# EAGLE library part FEP01 (library FEP01)
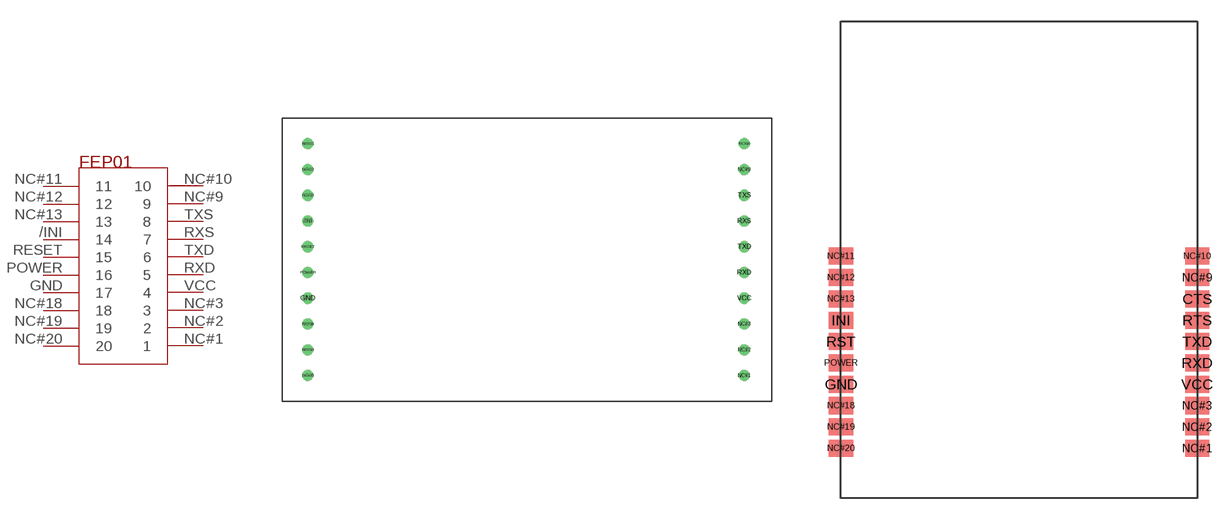
[diagram p0: symbol with the pads of FEP01; footprints FEP01, FEP01_1]

Designator prefix -

## FEP01FEP01  [FEP01]
/INI  14
GND  17
NC#1  1
NC#2  2
NC#3  3
NC#9  9
NC#10  10
NC#11  11
NC#12  12
NC#13  13
NC#18  18
NC#19  19
NC#20  20
POWER  16
RESET  15
RXD  5
RXS  7
TXD  6
TXS  8
VCC  4

## FEP01FEP01_1  [FEP01_1]
CTS  8
GND  17
INI  14
NC#1  1
NC#2  2
NC#3  3
NC#9  9
NC#10  10
NC#11  11
NC#12  12
NC#13  13
NC#18  18
NC#19  19
NC#20  20
POWER  16
RST  15
RTS  7
RXD  5
TXD  6
VCC  4

## Footprint FEP01 (pad centres in mm)
drill 0.6: /INI 2.56,-10.24; GND 2.56,-17.92; NC#1 45.9,-25.6; NC#2 45.9,-23.04; NC#3 45.9,-20.48; NC#9 45.9,-5.12; NC#10 45.9,-2.56; NC#11 2.56,-2.56; NC#12 2.56,-5.12; NC#13 2.56,-7.68; NC#18 2.56,-20.48; NC#19 2.56,-23.04; NC#20 2.56,-25.6; POWER 2.56,-15.36; RESET 2.56,-12.8; RXD 45.9,-15.36; RXS 45.9,-10.24; TXD 45.9,-12.8; TXS 45.9,-7.68; VCC 45.9,-17.92

## Footprint FEP01_1 (pad centres in mm)
smd 1.7 x 1.2: CTS 25,10.5; GND 0,4.5; INI 0,9; NC#1 25,0; NC#2 25,1.5; NC#3 25,3; NC#9 25,12; NC#10 25,13.5; NC#11 0,13.5; NC#12 0,12; NC#13 0,10.5; NC#18 0,3; NC#19 0,1.5; NC#20 0,0; POWER 0,6; RST 0,7.5; RTS 25,9; RXD 25,6; TXD 25,7.5; VCC 25,4.5